# EAGLE library part ADG849YKSZ-REEL (library ADG849YKSZ-REEL)
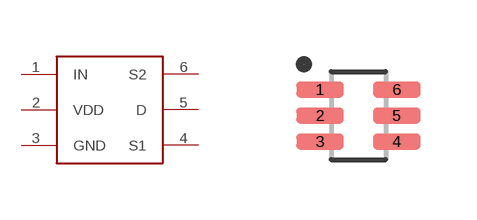
[diagram p0: symbol with the pads of SOT65P210X110-6N; footprint SOT65P210X110-6N]

Designator prefix -

## ADG849YKSZ-REEL  [SOT65P210X110-6N]
1  IN
2  VDD
3  GND
4  S1
5  D
6  S2

## Footprint SOT65P210X110-6N (pad centres in mm)
smd 1.19 x 0.4: 1 -0.96,0.65; 2 -0.96,0; 3 -0.96,-0.65; 4 0.96,-0.65; 5 0.96,0; 6 0.96,0.65